# Altium footprint library Optoelectronics.PcbLib: 52 footprints (part 3 of 4)
Each footprint in its own frame and in the unit in brackets; x right, y up, seen from the top. Pads: shape width x height; smd on the part's side, far side on the other; paste and mask are expansions set on the pad; w line width, h text height; cw(c..) or ccw(c..) is an arc to the next point about the centre after c.
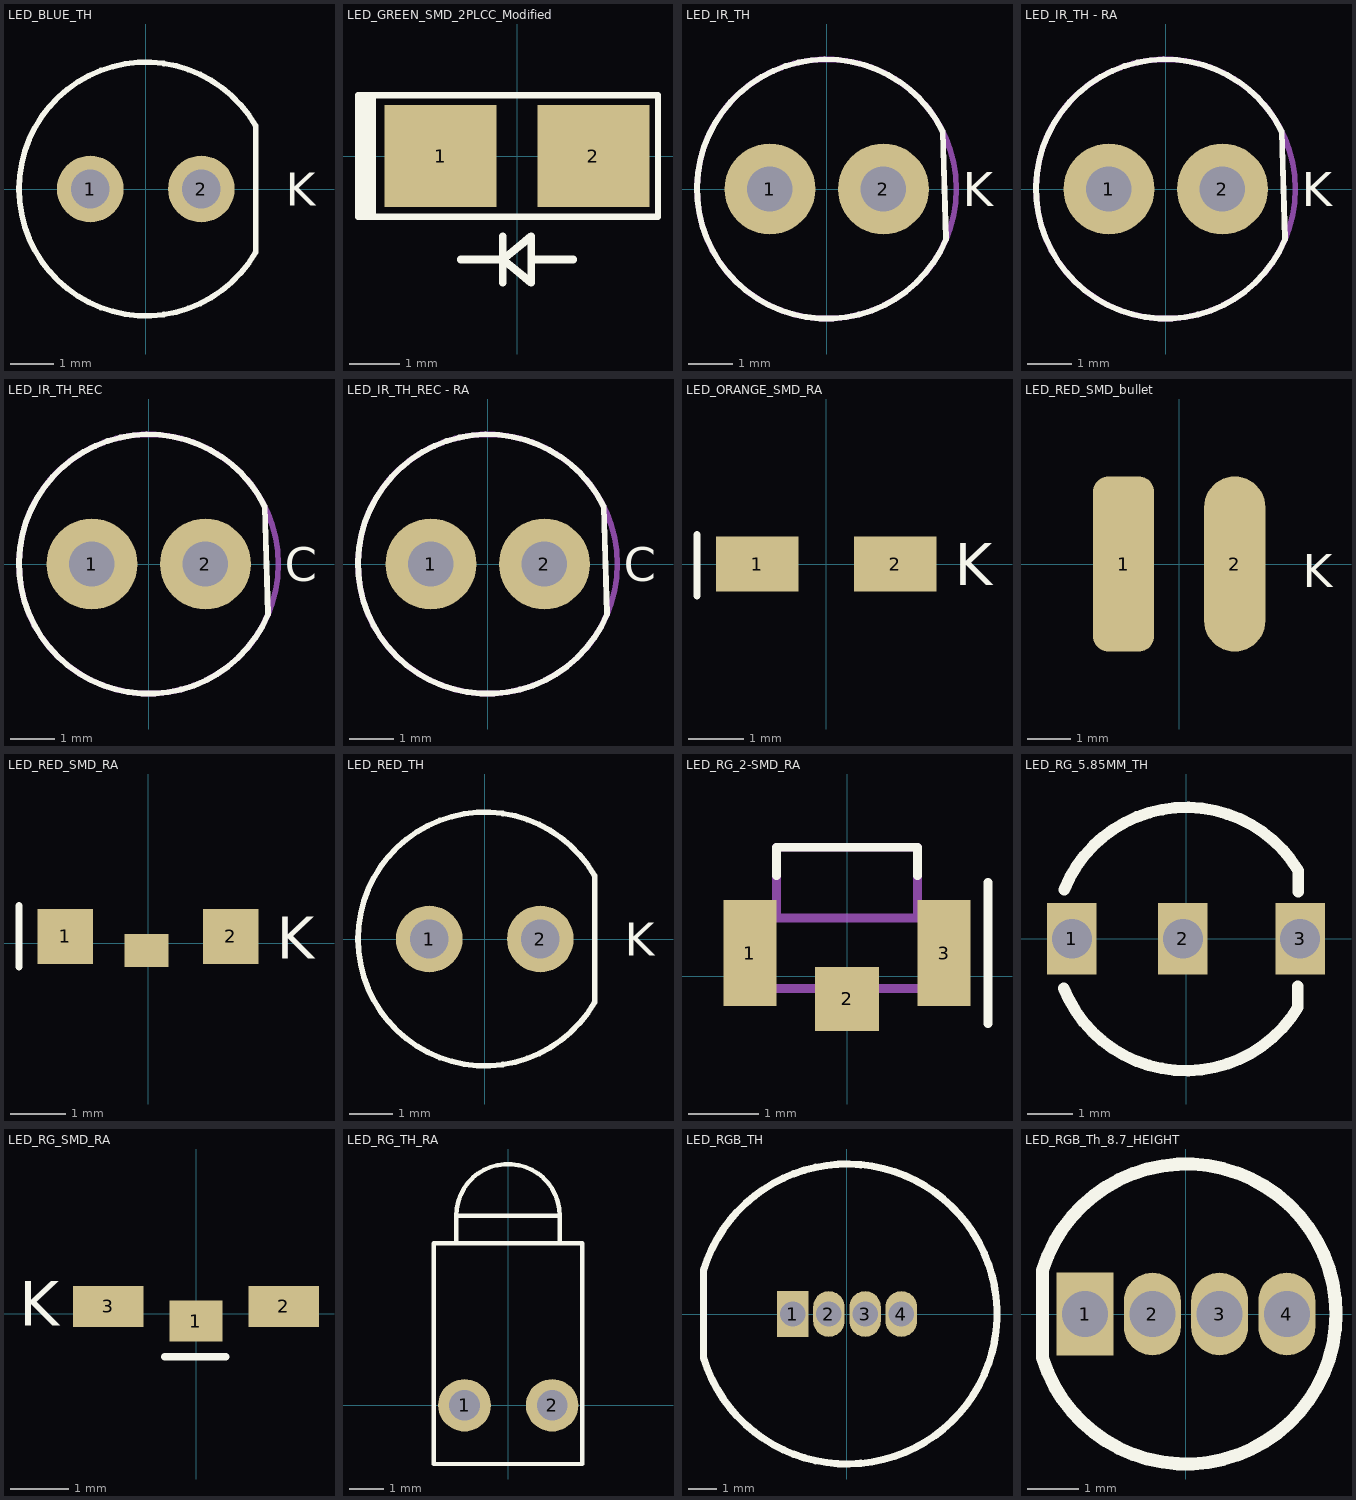
[diagram p2: the footprints below, top view; thin cyan lines are the x and y axes]

## LED_BLUE_TH [mil] "/20220830/F-A.Ocpina"
pads (2):
  round 60 hole 35: 1(-50,0) 2(50,0)
Top Overlay:
  lines w5: 98.88,-57.09 cw(c0,0) 98.88,57.09 98.88,-57.09
  text "K" at 126,-15 h30
3D body "825495mm_package_3D.stp": height 343.21, standoff -1007.37, extent -114.3,-114.16 98.3,114.17

## LED_GREEN_SMD_2PLCC_Modified [mm] "/20210205/M-C.Calderon"
pads (2):
  rect 2.2x2 smd: 1(-1.5,0) 2(1.5,0)
Top Overlay:
  rectangle: -3.124,-1.168 -2.769,1.143
  lines w0.127: -3.124,-1.194 2.769,-1.194 2.769,1.194 -3.124,1.194 -3.124,-1.194
  lines w0.152: -1.105,-2.032 -0.279,-2.032 ; -0.279,-2.489 -0.279,-1.575 ; 1.105,-2.032 0.279,-2.032 ; -0.279,-2.032 0.279,-1.575 0.279,-2.032 ; -0.279,-2.032 0.279,-2.489 0.279,-2.032
3D body: height 1.37, standoff 0, extent -1.563,-0.7 1.537,0.7

## LED_IR_TH [mil] "/20210602/J-E.Pachon"
pads (2):
  round 80 hole 40: 1(-50,0) 2(50,0)
Top Overlay:
  lines w5: 105.11,-44.27 102.22,50.85 ccw(c0,0) 105.22,-44.31
  text "K" at 120,-15 h30
Top Solder:
  circle w39.37: c-50,0 r19.68
  circle w39.37: c50,0 r19.68
Bottom Solder:
  circle w39.37: c-50,0 r19.68
  circle w39.37: c50,0 r19.68
Mechanical 1:
  circle w5: c0,0 r114.17
3D body "LED5,0mmVermelho.step": height 247.79, standoff -118.11, extent -120.33,-125.84 96.21,110.2

## LED_IR_TH - RA [mil] "/20221124/N-A.Potosi"
pads (2):
  round 80 hole 40: 1(-50,0) 2(50,0)
Top Overlay:
  lines w5: 105.11,-44.27 102.22,50.85 ccw(c0,0) 105.22,-44.31
  text "K" at 120,-15 h30
Top Solder:
  circle w39.37: c-50,0 r19.68
  circle w39.37: c50,0 r19.68
Bottom Solder:
  circle w39.37: c-50,0 r19.68
  circle w39.37: c50,0 r19.68
Mechanical 1:
  circle w5: c0,0 r114.17
3D body "WHITE LED.stp": height 253.97, standoff -192.16, extent -115.85,-494.23 99.86,15.59

## LED_IR_TH_REC [mil] "/20221122/J-E.Pachon"
pads (2):
  round 80 hole 40: 1(-50,0) 2(50,0)
Top Overlay:
  lines w5: 105.11,-44.27 102.22,50.85 ccw(c0,0) 105.22,-44.31
  text "C" at 120,-15 h30
Top Solder:
  circle w39.37: c-50,0 r19.68
  circle w39.37: c50,0 r19.68
Bottom Solder:
  circle w39.37: c-50,0 r19.68
  circle w39.37: c50,0 r19.68
Mechanical 1:
  circle w5: c0,0 r114.17
3D body "LED5,0mmVermelho.step": height 247.79, standoff -118.11, extent -120.33,-125.84 96.21,110.2

## LED_IR_TH_REC - RA [mil] "/20221124/N-A.Potosi"
pads (2):
  round 80 hole 40: 1(-50,0) 2(50,0)
Top Overlay:
  lines w5: 105.11,-44.27 102.22,50.85 ccw(c0,0) 105.22,-44.31
  text "C" at 120,-15 h30
Top Solder:
  circle w39.37: c-50,0 r19.68
  circle w39.37: c50,0 r19.68
Bottom Solder:
  circle w39.37: c-50,0 r19.68
  circle w39.37: c50,0 r19.68
Mechanical 1:
  circle w5: c0,0 r114.17
3D body "BLACK LED.stp": height 253.97, standoff -192.16, extent -115.71,-494.91 100,14.91

## LED_ORANGE_SMD_RA [mm] "/20201028/J-E.Pachon"
pads (2):
  rect 1.5x1 smd: 1(-1.25,0) 2(1.25,0)
Top Overlay:
  lines w0.127: -2.342,-0.584 -2.342,0.533
  text "K" at 2.331,-0.381 h0.76
3D body "APA2107.STEP": height 0.6, standoff 0, extent -1.005,-0.264 1.095,0.737

## LED_RED_SMD_bullet [mm] "/20201021/J-E.Pachon"
pads (2):
  rrect50% 1.4x4 smd: 1(-1.27,0)
  oval 1.4x4 smd: 2(1.27,0)
Top Overlay:
  text "K" at 2.819,-0.533 h0.76
3D body "LED5,0mmVermelho.step": height 3.5, standoff -2.5, extent -2.924,-0.765 2.576,8.529

## LED_RED_SMD_RA [mm] "/20201022/J-E.Pachon"
pads (3):
  rect 1x1 smd: 1(-1.5,0.127) 2(1.5,0.127)
  rect 0.8x0.6 smd: ""(-0.027,-0.127)
Top Overlay:
  lines w0.127: -2.338,-0.432 -2.338,0.686
  text "K" at 2.335,-0.279 h0.76
3D body "LED_CH_Stat.stp": height 1.01, standoff 0.01, extent -1.627,-0.127 1.573,1.358

## LED_RED_TH [mil] "/20210602/J-E.Pachon"
pads (2):
  round 60 hole 35: 1(-50,0) 2(50,0)
Top Overlay:
  lines w5: 98.88,-57.09 cw(c0,0) 98.88,57.09 98.88,-57.09
  text "K" at 126,-15 h30
3D body "825495mm_package_3D.stp": height 343.21, standoff -1007.37, extent -114.3,-114.16 98.3,114.17

## LED_RG_2-SMD_RA [mm] "/20220510/J-E.Pachon"
pads (3):
  rect 0.75x1.5 smd: 1(-1.375,0.325) 3(1.375,0.325)
  rect 0.9x0.9 smd: 2(0,-0.325)
Top Overlay:
  lines w0.127: -1,1.425 -1,1.825 1,1.825 1,1.425 ; 2,-0.675 2,1.325
Mechanical 13:
  lines w0.127: -1,0.825 1,0.825 ; -1,0.825 -1.5,0.825 -1.5,-0.175 1.5,-0.175 1.5,0.825 1,0.825 ; -1,0.825 -1,1.825 1,1.825 1,0.825
3D body "LTST-S326KGJRKT--3DModel-STEP-56544.STEP": height 1.01, standoff 0.01, extent -1.478,-0.294 1.522,1.697

## LED_RG_5.85MM_TH [mm] "/20220808/V-A.Patino"
pads (3):
  rect 1.1x1.6 hole 0.889: 1(-2.54,0) 2(-0.069,0) 3(2.54,0)
Top Overlay:
  lines w0.254: -2.721,-1.103 ccw(c-0.007,-0.012) 2.493,-1.53 2.493,-1.062 ; -2.714,1.091 cw(c0,0) 2.5,1.518 ; 2.5,1.05 2.5,1.518
3D body "QBL8RAG60D1.step": height 9.69, standoff -25.96, extent -2.925,-2.925 2.839,2.925

## LED_RG_SMD_RA [mm]
pads (3):
  rect 0.9x0.7 smd: 1(-0.001,-0.127)
  rect 1.2x0.7 smd: 2(1.5,0.127) 3(-1.5,0.127)
Top Overlay:
  lines w0.127: -0.535,-0.737 0.507,-0.737
  text "K" at -3.024,-0.203 h0.76
3D body "LED_RG_SMD.stp": height 1.01, standoff 0.01, extent -1.601,-0.103 1.599,1.397

## LED_RG_TH_RA [mil] "/20220516/J-E.Pachon"
pads (2):
  round 60 hole 35: 1(-50,0) 2(50,0)
Top Overlay:
  lines w5: -59.41,184.97 -59.41,216.46 ; 58.7,184.97 58.7,216.46 ; -59.41,216.46 cw(c-0.35,216.46) 58.7,216.46 ; -59.41,216.46 58.7,216.46 ; -85,-67 84.29,-67 84.29,184.97 -85,184.97 -85,-67
3D body "BIVAR__INC_H101CBC.step": height 285.5, standoff -156.5, extent -85,-67 85,274

## LED_RGB_TH [mm] "/20210602/J-E.Pachon"
pads (4):
  rect 1.1x1.6 hole 0.889: 1(-1.9,0)
  oval 1.1x1.6 hole 0.889: 2(-0.633,0) 3(0.633,0) 4(1.9,0)
Top Overlay:
  lines w0.254: -5.021,-1.535 ccw(c0,0) -5.021,1.535 -5.021,-1.535
3D body "NTE30157--3DModel-STEP-1.STEP": height 13.66, standoff -26.29, extent -4.98,-5.4 5.42,5.4

## LED_RGB_Th_8.7_HEIGHT [mm] "/20210602/J-E.Pachon"
pads (4):
  rect 1.1x1.6 hole 0.889: 1(-1.95,0)
  oval 1.1x1.6 hole 0.889: 2(-0.65,0) 3(0.65,0) 4(1.95,0)
Top Overlay:
  lines w0.254: -2.773,-0.848 ccw(c0,0) -2.773,0.848 -2.773,-0.848
3D body "QBL8RGB.step": height 8.65, standoff -27, extent -2.59,-2.925 2.835,2.925